# Altium schematic symbol library con-kyocera-elco.SCHLIB: 5 symbols
Pins are listed as number, name and electrical type; pins without a type are passive.

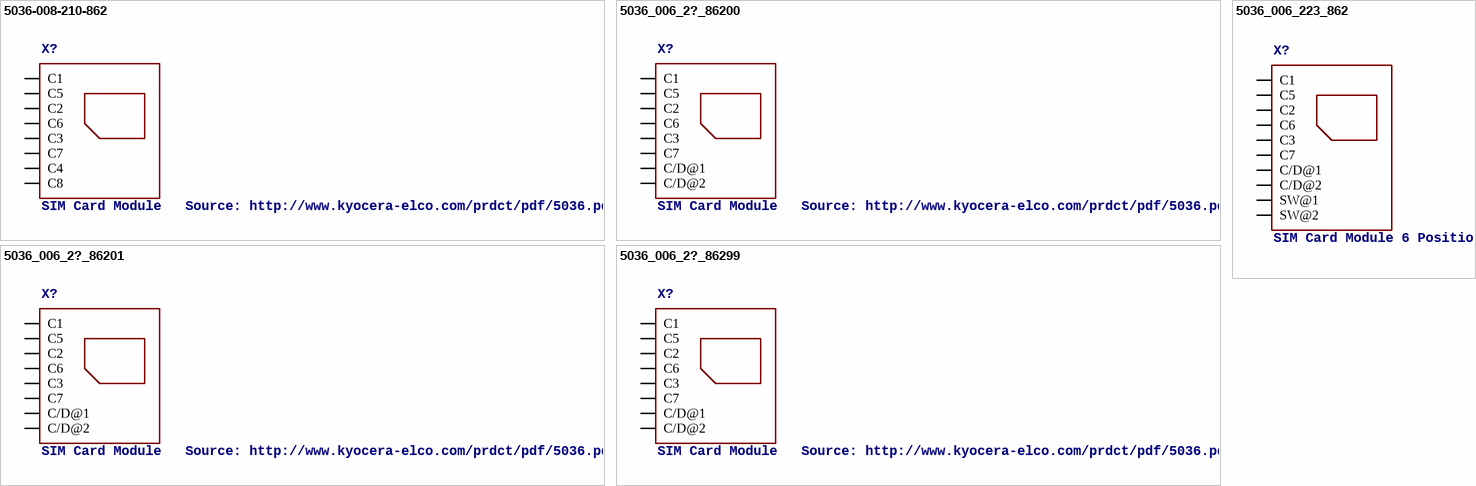
[diagram p0: symbols 5036-008-210-862 to 5036_006_223_862]

## 5036-008-210-862
designator X?, comment SIM Card Module   Source: http://www.kyocera-elco.com/prdct/pdf/5036.pdf
OC_FARNELL: unknown; OC_NEWARK: unknown
footprint 5036_008_210_862
pins: C1, C2, C3, C4, C5, C6, C7, C8

## 5036_006_2?_86200
designator X?, comment SIM Card Module   Source: http://www.kyocera-elco.com/prdct/pdf/5036.pdf
OC_FARNELL: unknown; OC_NEWARK: unknown
footprint 5036_006_200_862
pins: C1, C2, C3, C5, C6, C7, C/D@1, C/D@2

## 5036_006_2?_86201
designator X?, comment SIM Card Module   Source: http://www.kyocera-elco.com/prdct/pdf/5036.pdf
OC_FARNELL: unknown; OC_NEWARK: unknown
footprint 5036_006_201_862
pins: C1, C2, C3, C5, C6, C7, C/D@1, C/D@2

## 5036_006_2?_86299
designator X?, comment SIM Card Module   Source: http://www.kyocera-elco.com/prdct/pdf/5036.pdf
OC_FARNELL: unknown; OC_NEWARK: unknown
footprint 5036_006_299_862
pins: C1, C2, C3, C5, C6, C7, C/D@1, C/D@2

## 5036_006_223_862
designator X?, comment SIM Card Module 6 PositionsWith a lock, Flat shell type   Source: http://www.kyocera-elco.com/prdct/pdf/5036.pdf
OC_FARNELL: unknown; OC_NEWARK: unknown
footprint 5036_006_223_862
pins: C1, C2, C3, C5, C6, C7, C/D@1, C/D@2, SW@1, SW@2